# EAGLE library part ARDUINO_ISP (library wsn)
AVR ISP 6-pin inline header for Arduino ISP
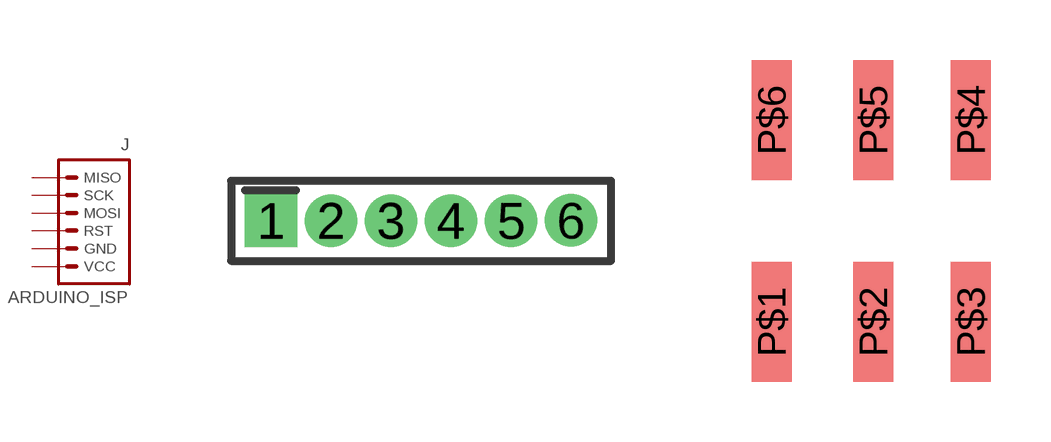
[diagram p0: symbol with the pads of AVR_MINI_PROG; footprints AVR_MINI_PROG, M-2X3]

Designator prefix J

## ARDUINO_ISP_ISP  [AVR_MINI_PROG]
1  MISO  pas
2  SCK  pas
3  MOSI  pas
4  RST  pas
5  GND  pas
6  VCC  pas

## ARDUINO_ISP  [M-2X3]
P$1  MISO  pas
P$2  SCK  pas
P$3  MOSI  pas
P$4  RST  pas
P$5  GND  pas
P$6  VCC  pas

## Footprint AVR_MINI_PROG (pad centres in mm)
drill 0.8 pad 1.27 square: 1 0,0
drill 0.8 pad 1.27: 2 1.5,0; 3 3,0; 4 4.5,0; 5 6,0; 6 7.5,0.01

## Footprint M-2X3 (pad centres in mm)
smd 1 x 3: P$1 0,0; P$2 2.54,0; P$3 4.98,0; P$4 4.98,5.05; P$5 2.54,5.05; P$6 0,5.05